# EAGLE library part SI3493BDV (library kwoo)
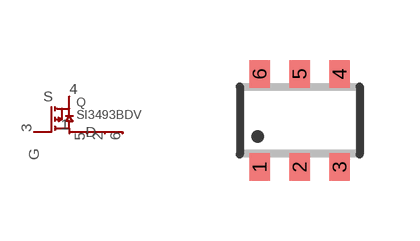
[diagram p20: symbol with the pads of 6-TSOP; footprint 6-TSOP]

Designator prefix Q

## SI3493BDV  [6-TSOP]
1  D
2  D2
3  G
4  S
5  D3
6  D4

## Footprint 6-TSOP (pad centres in mm)
smd 0.508 x 0.699: 1 -1.001,-1.163; 2 0,-1.163; 3 1.001,-1.163; 4 1.001,1.163; 5 0,1.163; 6 -1.001,1.163